# Altium footprint library PCB LIB smart home.PcbLib: 15 footprints
Each footprint in its own frame and in the unit in brackets; x right, y up, seen from the top. Pads: shape width x height; smd on the part's side, far side on the other; paste and mask are expansions set on the pad; w line width, h text height; cw(c..) or ccw(c..) is an arc to the next point about the centre after c.
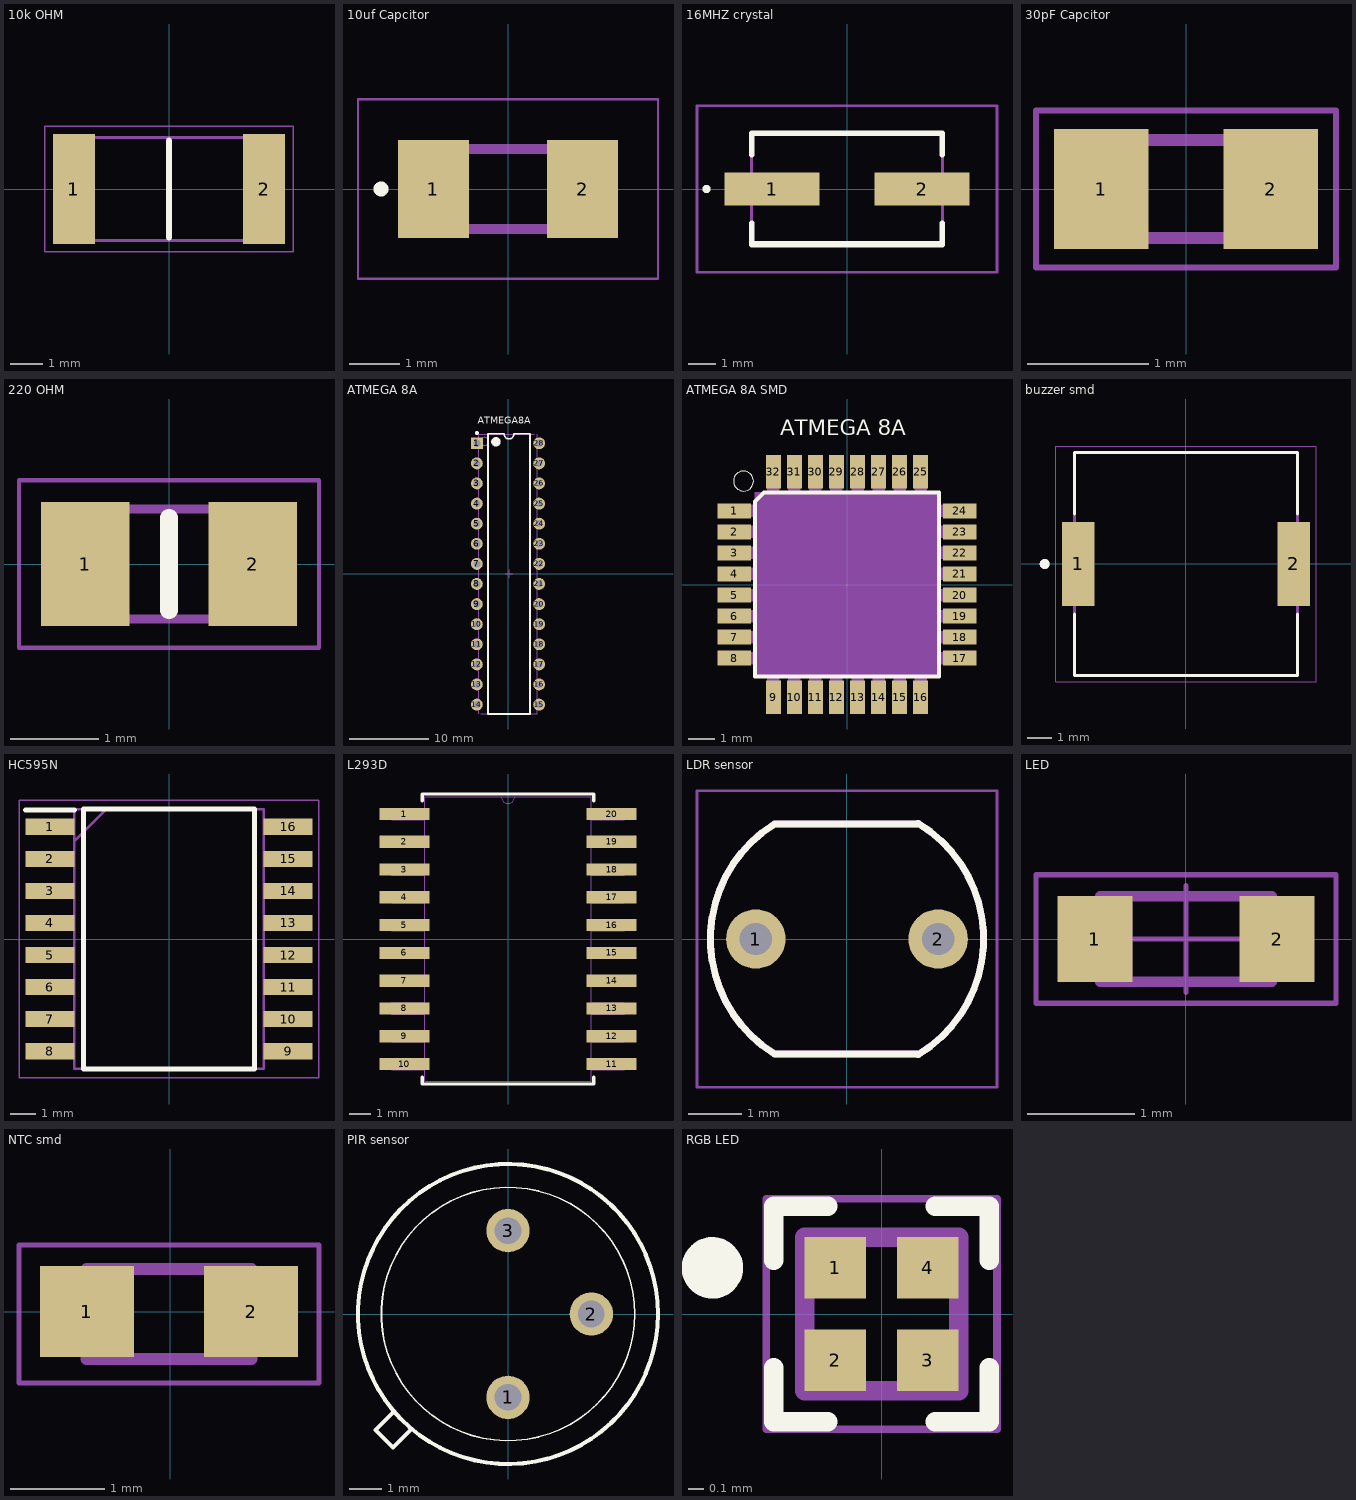
[diagram p0: the footprints below, top view; thin cyan lines are the x and y axes]

## 10k OHM [mm]
pads (2):
  rect 1.3x3.4 smd: 1(-2.95,0) 2(2.95,0)
Top Overlay:
  lines w0.2: 0,-1.5 0,1.5
Mechanical 13:
  lines w0.1: -3.15,-1.6 -3.15,1.6 3.15,1.6 3.15,-1.6 -3.15,-1.6
Mechanical 15:
  lines w0.05: -3.85,-1.95 -3.85,1.95 3.85,1.95 3.85,-1.95 -3.85,-1.95
3D body "CR2512AJW-103ELF.stp": height 0.7, standoff 0, extent -3.15,-1.6 3.15,1.6

## 10uf Capcitor [mm]
pads (2):
  rect 1.42x1.96 smd: 1(-1.49,0) 2(1.49,0)
Top Overlay:
  circle w0.2: c-2.54,0 r0.05
Mechanical 13:
  lines w0.2: -1.65,-0.8 -1.65,0.8 1.65,0.8 1.65,-0.8 -1.65,-0.8
Mechanical 15:
  lines w0.05: -3,-1.8 -3,1.8 3,1.8 3,-1.8 -3,-1.8
3D body "C1206X106K8RACTU.stp": height 1.95, standoff 0, extent -1.85,-0.98 1.85,0.97

## 16MHZ crystal [mm]
pads (2):
  rect 3.5x1.2 smd: 1(-2.75,0) 2(2.75,0)
Top Overlay:
  lines w0.2: -5.2,0 ccw(c-5.15,0) -5.1,0 ; -5.2,0 cw(c-5.15,0) -5.1,0 ; -5.2,0 ccw(c-5.15,0) -5.1,0 ; -3.5,-2 -3.5,-1.25 -3.5,-2 ; -3.5,-2 -3.5,-2.05 3.5,-2.05 3.5,-2 ; -3.5,-2 3.5,-2 ; -3.5,2.05 -3.5,1.25 -3.5,2.05 ; -3.5,2.05 3.5,2.05 -3.5,2.05 ; 3.5,-2 3.5,-1.25 3.5,-2 ; 3.5,1.25 3.5,2 3.5,1.25
Mechanical 13:
  lines w0.1: -3.5,-2.05 -3.5,2.05 3.5,2.05 3.5,-2.05 -3.5,-2.05
Mechanical 15:
  lines w0.1: -5.5,-3.05 -5.5,3.05 5.5,3.05 5.5,-3.05 -5.5,-3.05
3D body "ECS-160-20-3X-TR--3DModel-STEP-56544.STEP": height 2.3, standoff 0, extent -3.673,-2.05 3.927,2.05

## 30pF Capcitor [mm]
pads (2):
  rect 0.78x0.99 smd: 1(-0.7,0) 2(0.7,0)
Mechanical 13:
  lines w0.1: -0.8,-0.405 -0.8,0.405 0.8,0.405 0.8,-0.405 -0.8,-0.405
Mechanical 15:
  lines w0.05: -1.24,-0.65 -1.24,0.65 1.24,0.65 1.24,-0.65 -1.24,-0.65
3D body "06031A300FAT2A.stp": height 0.9, standoff 0, extent -0.8,-0.405 0.8,0.405

## 220 OHM [mm]
pads (2):
  rect 1x1.4 smd: 1(-0.95,0) 2(0.95,0)
Top Overlay:
  lines w0.2: 0,-0.525 0,0.525
Mechanical 13:
  lines w0.1: -1,-0.625 1,-0.625 1,0.625 -1,0.625 -1,-0.625
Mechanical 15:
  lines w0.05: -1.7,-0.95 1.7,-0.95 1.7,0.95 -1.7,0.95 -1.7,-0.95
3D body "WR08X2200FTL.stp": height 0.65, standoff 0, extent -1,-0.625 1,0.625

## ATMEGA 8A [mm]
pads (28):
  rect 1.5x1.5 hole 0.9: 1(-3.937,16.51)
  round 1.5 hole 0.9: 2(-3.937,13.97) 3(-3.937,11.43) 4(-3.937,8.89) 5(-3.937,6.35) 6(-3.937,3.81) 7(-3.937,1.27) 8(-3.937,-1.27) 9(-3.937,-3.81) 10(-3.937,-6.35) 11(-3.937,-8.89) 12(-3.937,-11.43) 13(-3.937,-13.97) 14(-3.937,-16.51) 15(3.937,-16.51) 16(3.937,-13.97) 17(3.937,-11.43) 18(3.937,-8.89) 19(3.937,-6.35) 20(3.937,-3.81) 21(3.937,-1.27) 22(3.937,1.27) 23(3.937,3.81) 24(3.937,6.35) 25(3.937,8.89) 26(3.937,11.43) 27(3.937,13.97) 28(3.937,16.51)
Top Overlay:
  circle w0.25: c-3.937,17.81 r0.125
  circle w0.6: c-1.523,16.7 r0.3
  lines w0.2: -2.523,-17.7 -2.523,17.7 -0.508,17.7 ccw(c0.127,17.7) 0.762,17.7 2.777,17.7 2.777,-17.7 -2.523,-17.7
  text "ATMEGA8A" at -3.81,18.686 h1.52
Mechanical 13:
  circle w0.1: c-2.954,16.75 r0.5
  lines w0.1: -3.854,17.65 3.346,17.65 ; -3.727,-17.65 -3.727,17.65 ; -3.473,-17.65 3.727,-17.65 3.727,17.65
Mechanical 15:
  lines w0.1: -0.373,0 0.627,0 ; 0.127,-0.5 0.127,0.5
Mechanical 29:
  text "Mind Cloud" at -2.286,0 h1.02
3D body "28P3_ATM.step": height 5.21, standoff -2.54, extent -4.051,-18.542 4.064,18.288

## ATMEGA 8A SMD [mil]
pads (32):
  rect 50x22 smd: 1(-169,110.24) 2(-169,78.74) 3(-169,47.24) 4(-169,15.75) 5(-169,-15.75) 6(-169,-47.24) 7(-169,-78.74) 8(-169,-110.24) 17(169,-110.24) 18(169,-78.74) 19(169,-47.24) 20(169,-15.75) 21(169,15.75) 22(169,47.24) 23(169,78.74) 24(169,110.24)
  rect 22x50 smd: 9(-110.24,-169) 10(-78.74,-169) 11(-47.24,-169) 12(-15.75,-169) 13(15.75,-169) 14(47.24,-169) 15(78.74,-169) 16(110.24,-169) 25(110.24,169) 26(78.74,169) 27(47.24,169) 28(15.75,169) 29(-15.75,169) 30(-47.24,169) 31(-78.74,169) 32(-110.24,169)
Top Overlay:
  circle w0: c-155,155 r15
  lines w6: -137.99,-137.99 137.99,-137.99 137.99,137.99 -124.02,137.99 -137.99,124.02 -137.99,-137.99
  text "ATMEGA 8A" at -100,215.44 h40
Mechanical 13:
  region: -140,101.33 -179.17,101.33 -179.17,119.24 -140,119.24
  region: -140,69.79 -179.14,69.79 -179.14,87.74 -140,87.74
  region: -140,38.24 -179,38.24 -179,56.24 -140,56.24
  region: -140,6.75 -179.16,6.75 -179.16,24.75 -140,24.75
  region: -140,-24.78 -179.25,-24.78 -179.25,-6.75 -140,-6.75
  region: -140,-56.27 -179.07,-56.27 -179.07,-38.24 -140,-38.24
  region: -140,-87.87 -179.27,-87.87 -179.27,-69.74 -140,-69.74
  region: -140,-119.37 -179.21,-119.37 -179.21,-101.24 -140,-101.24
  region: -101.24,-179 -119.24,-179 -119.24,-140 -101.24,-140
  region: -69.74,-179.12 -87.8,-179.12 -87.8,-140 -69.74,-140
  region: -38.24,-179.01 -56.25,-179.01 -56.25,-140 -38.24,-140
  region: -6.75,-179.09 -24.76,-179.09 -24.76,-140 -6.75,-140
  region: 24.75,-179.27 6.76,-179.27 6.76,-140 24.75,-140
  region: 56.24,-179.17 38.28,-179.17 38.28,-140 56.24,-140
  region: 87.74,-179.3 69.86,-179.3 69.86,-140 87.74,-140
  region: 119.24,-179.16 101.33,-179.16 101.33,-140 119.24,-140
  region: 179,-119.34 140.12,-119.34 140.12,-101.24 179,-101.24
  region: 179,-87.85 140.17,-87.85 140.17,-69.74 179,-69.74
  region: 179,-56.28 140.1,-56.28 140.1,-38.24 179,-38.24
  region: 179,-24.77 140.1,-24.77 140.1,-6.75 179,-6.75
  region: 179,6.76 140.25,6.76 140.25,24.75 179,24.75
  region: 179,38.25 140.04,38.25 140.04,56.24 179,56.24
  region: 179,69.77 140.07,69.77 140.07,87.74 179,87.74
  region: 179,101.32 140.12,101.32 140.12,119.24 179,119.24
  region: 119.24,140.15 101.35,140.15 101.35,179 119.24,179
  region: 87.74,140.14 69.81,140.14 69.81,179 87.74,179
  region: 56.24,140.03 38.25,140.03 38.25,179 56.24,179
  region: 24.75,140.16 6.76,140.16 6.76,179 24.75,179
  region: -6.75,140.18 -24.78,140.18 -24.78,179 -6.75,179
  region: -38.24,140.21 -56.33,140.21 -56.33,179 -38.24,179
  region: -69.74,140.04 -87.76,140.04 -87.76,179 -69.74,179
  region: -101.24,140.03 -119.26,140.03 -119.26,179 -101.24,179
Mechanical 15:
  region: 137.99,-138.1 -138.1,-138.1 -138.1,137.99 137.99,137.99
Mechanical 29:
  text "Mind Cloud" at -60,-14.67 h30
3D body "step_temp.STEP": height 47.44, standoff 0.2, extent -177.17,-177.17 177.17,177.17

## buzzer smd [mm]
pads (2):
  rect 1.3x3.4 smd: 1(-4.35,0) 2(4.35,0)
Top Overlay:
  circle w0.2: c-5.7,0 r0.1
  lines w0.127: -4.5,-2.02 -4.5,-4.5 4.5,-4.5 4.5,-2.02 ; -4.5,2.02 -4.5,4.5 4.5,4.5 4.5,2.02
Mechanical 13:
  circle w0.2: c-5.7,0 r0.1
  lines w0.127: -4.5,-4.5 -4.5,4.5 4.5,4.5 4.5,-4.5 -4.5,-4.5
Mechanical 15:
  lines w0.05: -5.25,-4.75 5.25,-4.75 5.25,4.75 -5.25,4.75 -5.25,-4.75
3D body "PKMCS0909E4000-R1--3DModel-STEP-56544.STEP": height 1.77, standoff -0.13, extent -4.5,-4.5 4.5,4.5

## HC595N [mm]
pads (16):
  rect 1.95x0.65 smd: 1(-4.725,4.445) 2(-4.725,3.175) 3(-4.725,1.905) 4(-4.725,0.635) 5(-4.725,-0.635) 6(-4.725,-1.905) 7(-4.725,-3.175) 8(-4.725,-4.445) 9(4.725,-4.445) 10(4.725,-3.175) 11(4.725,-1.905) 12(4.725,-0.635) 13(4.725,0.635) 14(4.725,1.905) 15(4.725,3.175) 16(4.725,4.445)
Top Overlay:
  lines w0.2: -5.7,5.12 -3.75,5.12 ; -3.4,-5.15 -3.4,5.15 3.4,5.15 3.4,-5.15 -3.4,-5.15
Mechanical 13:
  lines w0.1: -3.75,3.88 -2.48,5.15 ; -3.75,-5.15 -3.75,5.15 3.75,5.15 3.75,-5.15 -3.75,-5.15
Mechanical 15:
  lines w0.05: -5.95,-5.5 -5.95,5.5 5.95,5.5 5.95,-5.5 -5.95,-5.5
3D body "SN74HC595DWR.stp": height 2.65, standoff 0, extent -5.15,-5.15 5.15,5.15

## L293D [mil]
pads (20):
  rect 90x22 smd paste+0 mask+0: 1(-186.5,225) 2(-186.5,175) 3(-186.5,125) 4(-186.5,75) 5(-186.5,25) 6(-186.5,-25) 7(-186.5,-75) 8(-186.5,-125) 9(-186.5,-175) 10(-186.5,-225) 11(186.5,-225) 12(186.5,-175) 13(186.5,-125) 14(186.5,-75) 15(186.5,-25) 16(186.5,25) 17(186.5,75) 18(186.5,125) 19(186.5,175) 20(186.5,225)
Top Overlay:
  lines w6: -154.5,-249.1 -154.5,-261 154.5,-261 154.5,-249.1 ; -154.5,249.1 -154.5,261 154.5,261 154.5,249.1
Mechanical 13:
  lines w0: -12,256 ccw(c0,256) 12,256
  lines w1: -209.5,-235 -149.5,-235 -149.5,-215 -209.5,-215 -209.5,-235 ; -209.5,-185 -149.5,-185 -149.5,-165 -209.5,-165 -209.5,-185 ; -209.5,-135 -149.5,-135 -149.5,-115 -209.5,-115 -209.5,-135 ; -209.5,-85 -149.5,-85 -149.5,-65 -209.5,-65 -209.5,-85 ; -209.5,-35 -149.5,-35 -149.5,-15 -209.5,-15 -209.5,-35 ; -209.5,15 -149.5,15 -149.5,35 -209.5,35 -209.5,15 ; -209.5,65 -149.5,65 -149.5,85 -209.5,85 -209.5,65 ; -209.5,115 -149.5,115 -149.5,135 -209.5,135 -209.5,115 ; -209.5,165 -149.5,165 -149.5,185 -209.5,185 -209.5,165 ; -209.5,215 -149.5,215 -149.5,235 -209.5,235 -209.5,215 ; -149.5,-256 -149.5,256 149.5,256 149.5,-256 -149.5,-256 ; 149.5,-235 209.5,-235 209.5,-215 149.5,-215 149.5,-235 ; 149.5,-185 209.5,-185 209.5,-165 149.5,-165 149.5,-185 ; 149.5,-135 209.5,-135 209.5,-115 149.5,-115 149.5,-135 ; 149.5,-85 209.5,-85 209.5,-65 149.5,-65 149.5,-85 ; 149.5,-35 209.5,-35 209.5,-15 149.5,-15 149.5,-35 ; 149.5,15 209.5,15 209.5,35 149.5,35 149.5,15 ; 149.5,65 209.5,65 209.5,85 149.5,85 149.5,65 ; 149.5,115 209.5,115 209.5,135 149.5,135 149.5,115 ; 149.5,165 209.5,165 209.5,185 149.5,185 149.5,165 ; 149.5,215 209.5,215 209.5,235 149.5,235 149.5,215
  text "*" at -147,203 h50
3D body "SO-20_STM.step": height 104.09, standoff 0, extent -209.49,-255.98 209.49,255.98

## LDR sensor [mm]
pads (2):
  round 1.108 hole 0.6: 1(-1.7,0) 2(1.7,0)
Top Overlay:
  lines w0.127: -1.364,-2.133 cw(c-0.031,0) -1.364,2.133 ; -1.345,-2.145 1.345,-2.145 ; -1.345,2.145 1.345,2.145 ; 1.326,-2.156 ccw(c0.031,0) 1.326,2.156
Mechanical 13:
  lines w0.127: -1.364,-2.133 cw(c-0.031,0) -1.364,2.133 ; -1.345,-2.145 1.345,-2.145 ; -1.345,2.145 1.345,2.145 ; 1.326,-2.156 ccw(c0.031,0) 1.326,2.156
Mechanical 15:
  lines w0.05: -2.796,-2.766 2.796,-2.766 2.796,2.766 -2.796,2.766 -2.796,-2.766
3D body "step_temp.STEP": height 2.39, standoff -25.98, extent -2.54,-2.146 2.54,2.146

## LED [mm]
pads (2):
  rect 0.7x0.8 smd: 1(-0.85,0) 2(0.85,0)
Top Courtyard:
  lines w0.05: -1.4,-0.6 -1.4,0.6 1.4,0.6 1.4,-0.6 -1.4,-0.6
Top Component Outline:
  rectangle: -0.8,-0.4 -0.5,0.4
  lines w0.1: -0.8,-0.4 -0.8,0.4 0.8,0.4 0.8,-0.4 -0.8,-0.4
Top Component Center:
  lines w0.05: -0.5,0 0.5,0 ; 0,-0.5 0,0.5
3D body "150060xx86000.stp": height 0.95, standoff 0, extent -0.8,-0.4 0.8,0.4

## NTC smd [mm]
pads (2):
  rect 1x0.97 smd: 1(-0.889,0) 2(0.861,0)
Mechanical 13:
  lines w0.127: -0.894,-0.505 0.866,-0.505 0.866,0.455 -0.894,0.455 -0.894,-0.505
Mechanical 15:
  lines w0.05: -1.614,-0.76 1.586,-0.76 1.586,0.71 -1.614,0.71 -1.614,-0.76
3D body "INDC-0603.stp": height -0.38, standoff -1.33, extent -0.889,-0.475 0.861,0.475

## PIR sensor [mil]
pads (3):
  round 52 hole 32: 1(0,-100) 2(100,0) 3(0,100)
Top Overlay:
  circle w5: c0,0 r180
  circle w2: c0,0 r152
  lines w5: -138,-118 -159,-139 -138,-160 -117,-139
3D body "ZRE200GE--3DModel-STEP-56544.STEP": height 194.41, standoff -561.5, extent -181.08,-181.1 181.1,181.1

## RGB LED [mm]
pads (4):
  rect 0.4x0.4 smd: 1(-0.3,0.3) 2(-0.3,-0.3) 3(0.3,-0.3) 4(0.3,0.3)
Top Overlay:
  circle w0.2: c-1.1,0.3 r0.1
  lines w0.127: -0.7,-0.35 -0.7,-0.7 -0.35,-0.7 ; -0.7,0.35 -0.7,0.7 -0.35,0.7 ; 0.35,-0.7 0.7,-0.7 0.7,-0.35 ; 0.35,0.7 0.7,0.7 0.7,0.35
Mechanical 13:
  lines w0.127: -0.5,-0.5 -0.5,0.5 0.5,0.5 0.5,-0.5 -0.5,-0.5
Mechanical 15:
  lines w0.05: -0.75,-0.75 -0.75,0.75 0.75,0.75 0.75,-0.75 -0.75,-0.75
3D body "UHD1110-FKA-CL1A13R3Q1BBQFMF3--3DModel-STEP-56544.STEP": height 0.7, standoff 0, extent -0.5,-0.5 0.5,0.5